# Altium schematic symbol library Transistor.SchLib: 7 symbols
Pins are listed as number, name and electrical type; pins without a type are passive.

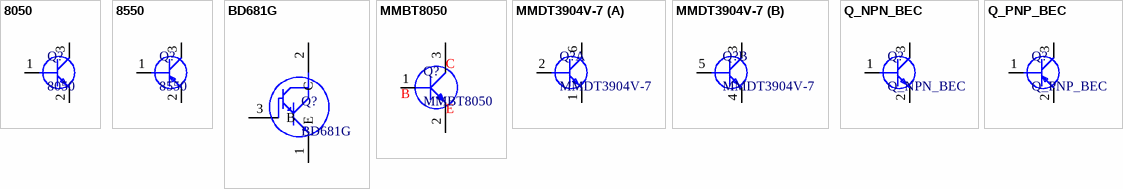
[diagram p0: symbols 8050 to Q_PNP_BEC]

## 8050
designator Q?
NPN transistor, base/emitter/collector
footprint SOT-23 (SOT23, 3-Leads, Body 2.90x2.45mm, Pitch 0.95mm, IPC Medium Density)
pins: 1 B, 2 E, 3 C

## 8550
designator Q?
PNP transistor, base/emitter/collector
footprint SOT-23 (SOT23, 3-Leads, Body 2.90x2.45mm, Pitch 0.95mm, IPC Medium Density)
pins: 1 B, 2 E, 3 C

## BD681G
designator Q?
BD681G 达林顿管 4A 40W
footprint TO-225
pins: 1 E, 2 C, 3 B

## MMBT8050
designator Q?
NPN Silicon Epitaxial Planar Transistor
footprint SOT-23 (SOT23, 3-Leads, Body 2.90x2.45mm, Pitch 0.95mm, IPC Medium Density)
pins: 1 B, 2 E, 3 C

## MMDT3904V-7
designator Q?
晶体管类型：2个NPN 集射极击穿电压(Vceo)：40V 集电极电流(Ic)：200mA 功率(Pd)：200mW 集电极-发射极饱和电压(VCE(sat)@Ic,Ib)：300mV@50mA,5mA 直流电流增益(hFE@Ic,Vce)：100@10mA,1V 特征频率(fT)：300MHz 工作温度：-55℃~+150℃@(Tj)
footprint SOT-563 (SOTFL, 6-Leads, Body 1.70x1.70mm, Pitch 0.50mm, IPC Medium Density)
part A pins: 1 E1, 2 B1, 6 C1
part B pins: 3 C2, 4 E2, 5 B2

## Q_NPN_BEC
designator Q?
NPN transistor, base/emitter/collector
footprint SOT-23 (SOT23, 3-Leads, Body 2.90x2.45mm, Pitch 0.95mm, IPC Medium Density)
pins: 1 B, 2 E, 3 C

## Q_PNP_BEC
designator Q?
PNP transistor, base/emitter/collector
footprint SOT-23 (SOT23, 3-Leads, Body 2.90x2.45mm, Pitch 0.95mm, IPC Medium Density)
pins: 1 B, 2 E, 3 C